# Altium footprint library RES.PcbLib: 37 footprints (part 1 of 3)
Each footprint in its own frame and in the unit in brackets; x right, y up, seen from the top. Pads: shape width x height; smd on the part's side, far side on the other; paste and mask are expansions set on the pad; w line width, h text height; cw(c..) or ccw(c..) is an arc to the next point about the centre after c.
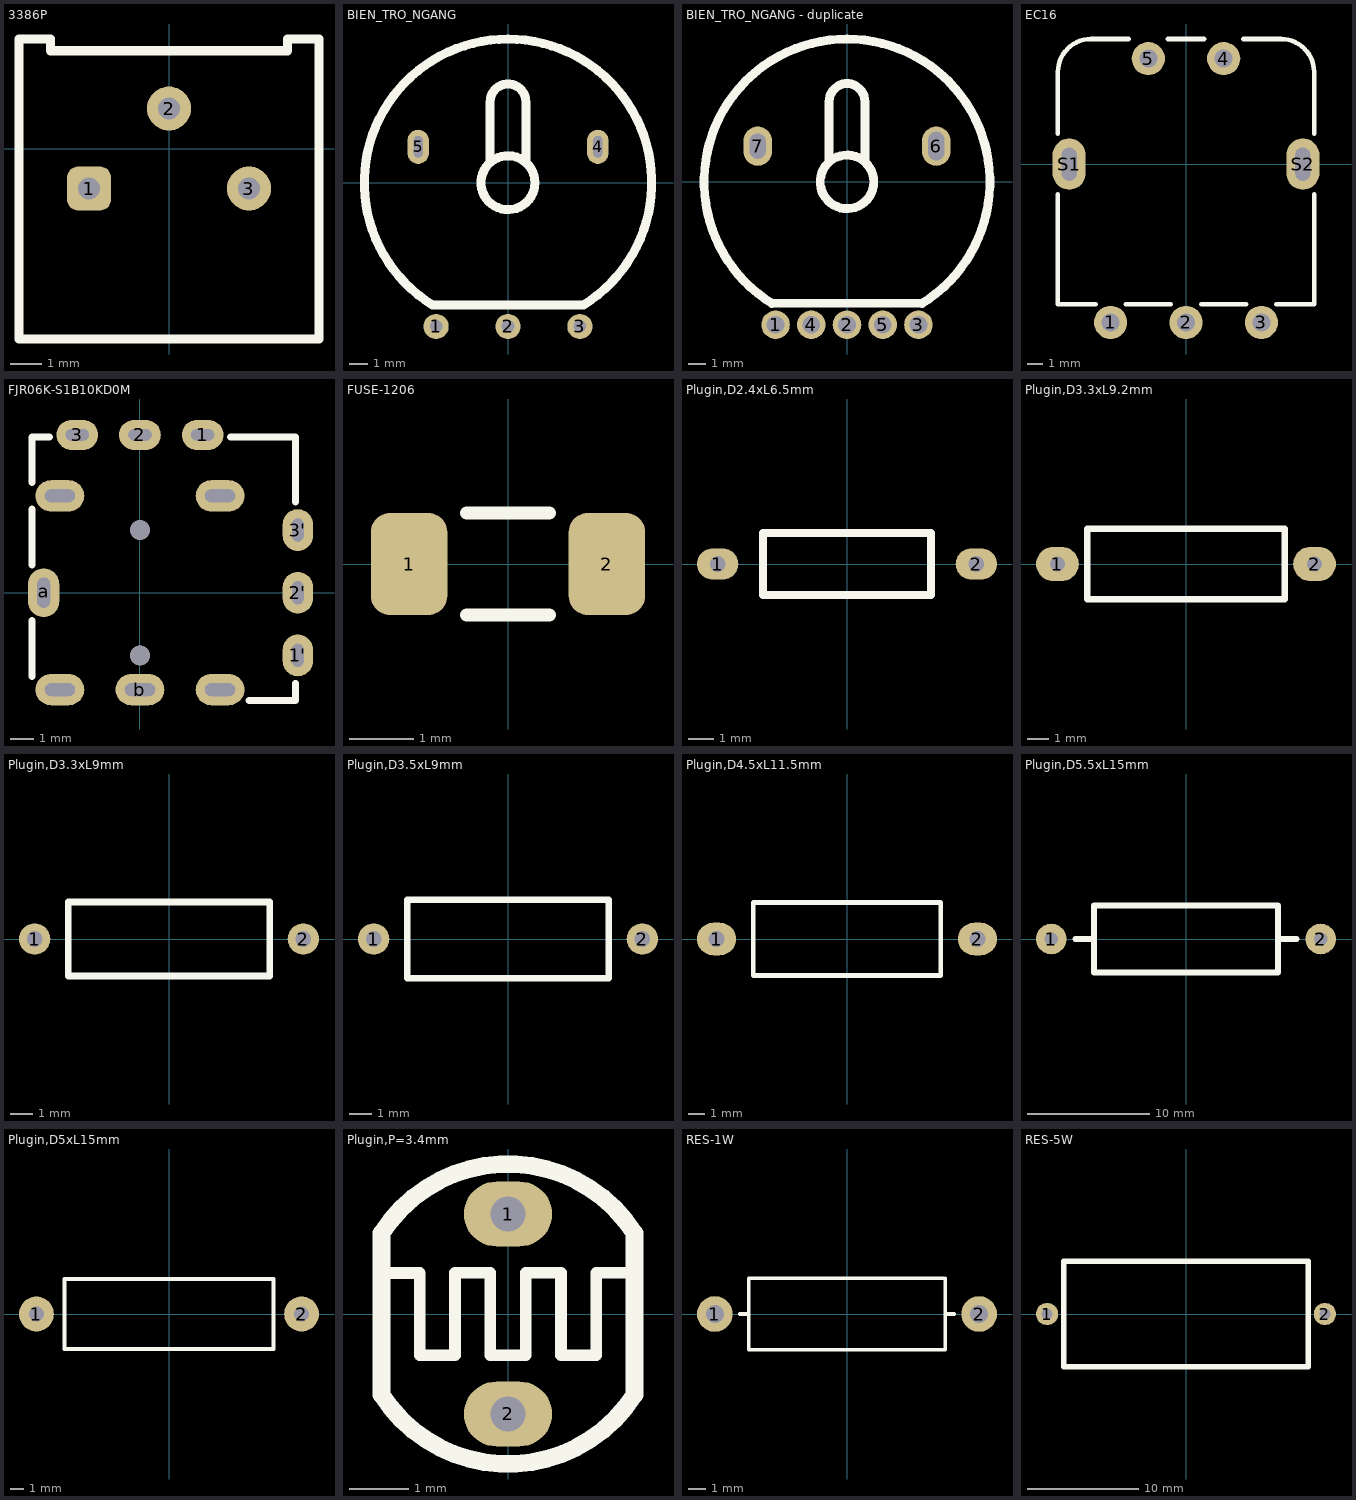
[diagram p0: the footprints below, top view; thin cyan lines are the x and y axes]

## 3386P [mm]
pads (3):
  rrect50% 1.4x1.4 hole 0.7: 1(-2.54,-1.27)
  round 1.4 hole 0.7: 2(0,1.27) 3(2.54,-1.27)
Top Overlay:
  lines w0.3: -4.765,-6.05 -4.765,3.48 -3.765,3.48 -3.765,3.1 3.765,3.1 3.765,3.48 4.765,3.48 4.765,-6.05 -4.765,-6.05
3D body "3386P-1-103T.STEP": height 10.92, standoff -6.86, extent -4.765,-6.05 4.765,3.48

## BIEN_TRO_NGANG [mm]
pads (5):
  round 1.4 hole 0.7: 1(-4,-8) 2(0,-8) 3(4,-8)
  oval 1.2x1.9 hole 0.5 slot 1.2 at 90 deg: 4(5,2) 5(-5,2)
Top Overlay:
  circle w0.5: c0,0 r1.5
  lines w0.5: -4.204,-6.806 cw(c0,0) 4.204,-6.806 ; -4.2,-6.8 4.2,-6.8 ; -1,1.14 -1,4.5 cw(c0,4.5) 1,4.5 1,1.14
3D body "potentiometre disk 3pin.step": height 3.2, standoff -2.69, extent -8,-8.5 8,7.5

## BIEN_TRO_NGANG - duplicate [mm]
pads (7):
  round 1.6 hole 1: 1(-4,-8) 2(0,-8) 3(4,-8) 4(-2,-8) 5(2,-8)
  oval 1.6x2.2 hole 0.9 slot 1.6 at 90 deg: 6(5,2)
  oval 1.6x2.2 hole 0.9 slot 1.4 at 90 deg: 7(-5,2)
Top Overlay:
  circle w0.5: c0,0 r1.5
  lines w0.5: -4.204,-6.806 cw(c0,0) 4.204,-6.806 ; -4.2,-6.8 4.2,-6.8 ; -1,1.14 -1,4.5 cw(c0,4.5) 1,4.5 1,1.14
3D body "potentiometre disk 3pin.step": height 3.2, standoff -2.69, extent -8,-8.5 8,7.5

## EC16 [mm]
pads (7):
  round 2.2 hole 1.2 mask+0.15: 1(-5,-10.5) 2(0,-10.5) 3(5,-10.5) 4(2.5,7) 5(-2.5,7)
  oval 2.2x3.4 hole 1 slot 2.2 at 90 deg mask+0.15: S1(-7.75,0) S2(7.75,0)
Top Overlay:
  lines w0.3: -8.5,-2 -8.5,-6.3 -8.5,-9.3 -6,-9.3 ; -8.5,2 -8.5,6.106 cw(c-6.306,6.106) -6.306,8.3 -3.8,8.3 ; -4,-9.3 -1,-9.3 ; -1.2,8.3 1.2,8.3 ; 1,-9.3 4,-9.3 ; 3.8,8.3 6.306,8.3 cw(c6.306,6.106) 8.5,6.106 8.5,2 ; 6,-9.3 8.5,-9.3 8.5,-6.3 8.5,-2
3D body "PEC16-4X20F-SXXXX.stp": height 28.5, standoff -4.1, extent -8.846,-12.4 8.846,8.3

## FJR06K-S1B10KD0M [mm]
pads (14):
  oval 1.8x1.3 hole 0.5 slot 1 at 0 deg: 1(2.7,6.8) 2(0,6.8) 3(-2.7,6.8)
  oval 1.3x1.8 hole 0.5 slot 1 at 90 deg: 1'(6.8,-2.7) 2'(6.8,0) 3'(6.8,2.7)
  oval 1.35x2.1 hole 0.55 slot 1.3 at 90 deg: a(-4.15,0)
  oval 2.1x1.35 hole 0.55 slot 1.3 at 0 deg: b(0,-4.175) ""(-3.45,-4.175) ""(-3.45,4.175) ""(3.45,-4.175) ""(3.45,4.175)
  round 0.85 hole 0.85: ""(0,-2.7) ""(0,2.7)
Top Overlay:
  lines w0.3: -4.65,-3.6 -4.65,-1.2 ; -4.65,1.2 -4.65,3.6 ; -4.65,4.75 -4.65,6.7 -3.9,6.7 ; 3.9,6.7 6.7,6.7 6.7,3.9 ; 4.7,-4.65 6.7,-4.65 6.7,-3.9

## FUSE-1206 [mm]
pads (2):
  rrect50% 1.2x1.6 smd: 1(-1.55,0) 2(1.55,0)
Top Overlay:
  lines w0.2: -0.65,-0.8 0.65,-0.8 ; -0.65,0.8 0.65,0.8
3D body "0ZCJ0035FF2G.step": height 0.51, standoff 0.01, extent -1.7,-0.85 1.7,0.85

## Plugin,D2.4xL6.5mm [mm]
pads (2):
  oval 1.6x1.2 hole 0.6: 1(-5,0) 2(5,0)
Top Overlay:
  lines w0.3: -3.25,-1.2 -3.25,1.2 3.25,1.2 3.25,-1.2 -3.25,-1.2

## Plugin,D3.3xL9.2mm [mm]
pads (2):
  oval 2x1.6 hole 0.7: 1(-6,0) 2(6,0)
Top Overlay:
  lines w0.3: -4.6,-1.65 -4.6,1.65 4.6,1.65 4.6,-1.65 -4.6,-1.65

## Plugin,D3.3xL9mm [mm]
pads (2):
  round 1.4 hole 0.7: 1(-6,0) 2(6,0)
Top Overlay:
  lines w0.3: -4.5,-1.65 -4.5,1.65 4.5,1.65 4.5,-1.65 -4.5,-1.65

## Plugin,D3.5xL9mm [mm]
pads (2):
  round 1.4 hole 0.7: 1(-6,0) 2(6,0)
Top Overlay:
  lines w0.3: -4.5,-1.75 -4.5,1.75 4.5,1.75 4.5,-1.75 -4.5,-1.75

## Plugin,D4.5xL11.5mm [mm]
pads (2):
  oval 2.4x2 hole 1: 1(-8,0) 2(8,0)
Top Overlay:
  lines w0.3: -5.75,-2.25 5.75,-2.25 5.75,2.25 -5.75,2.25 -5.75,-2.25

## Plugin,D5.5xL15mm [mm]
pads (2):
  round 2.5 hole 1.1: 1(-11,0) 2(11,0)
Top Overlay:
  lines w0.5: -9,0 -7.5,0 ; 7.5,0 9,0 ; -7.5,-2.75 7.5,-2.75 7.5,2.75 -7.5,2.75 -7.5,-2.75
3D body "User Library-AXIAL_RESISTOR(3W).STEP": height 2, standoff -8.3, extent -11.1,-3.3 11.1,3.3

## Plugin,D5xL15mm [mm]
pads (2):
  round 2.5 hole 1.1: 1(-9.5,0) 2(9.5,0)
Top Overlay:
  lines w0.3: -7.5,-2.5 7.5,-2.5 7.5,2.5 -7.5,2.5 -7.5,-2.5
3D body "axial_resistor_L15.5_D5.0_PinD0.7_Pitch20.5_light_blue.step": height 5, standoff -5.5, extent -10.6,-2.497 10.6,2.497

## Plugin,P=3.4mm [mm]
pads (2):
  oval 1.5x1.1 hole 0.6 mask+0.15: 1(0,1.7) 2(0,-1.7)
Top Overlay:
  lines w0.2: -2.15,0.698 -1.5,0.698 -1.5,-0.7 -0.9,-0.7 -0.9,0.7 -0.3,0.7 -0.3,-0.7 0.3,-0.7 0.3,0.7 0.9,0.7 0.9,-0.7 1.5,-0.7 1.5,0.7 2.146,0.7 ; 2.146,0.8 2.15,0.804
  lines w0.3: -2.151,-1.37 ccw(c0,0) 2.151,-1.37 2.15,-1 2.15,1 2.15,1.37 ccw(c0,0) -2.151,1.37 -2.15,1 -2.15,-1 -2.15,-1.37
3D body "photoresistor 5mm v0.step": height 2.3, standoff -33, extent -2.05,-2.55 2.05,2.55

## RES-1W [mm]
pads (2):
  round 2 hole 1: 1(-7.4,0) 2(7.4,0)
Top Overlay:
  lines w0.2: -6,0 -5.5,0 ; 5.4,2 -5.5,2 -5.5,-2 5.5,-2 5.5,2 ; 5.5,0 6,0
3D body "330R-Resistor 1w Green- Diameter 3.5- 14.5- 1%.stp": height 4.02, standoff -3.8, extent -7.55,-2.015 7.55,2.015

## RES-5W [mm]
pads (2):
  round 2 hole 1 mask+0.2: 1(-12.5,0) 2(12.5,0)
Top Overlay:
  lines w0.5: -11,-4.75 -11,4.75 11,4.75 11,-4.75 -11,-4.75
3D body "R0.225W.STEP": height 9.2, standoff -5.4, extent -12.2,-5 12.2,5